# Altium schematic symbol library Resistors.SchLib: 53 symbols
Pins are listed as number, name and electrical type; pins without a type are passive.

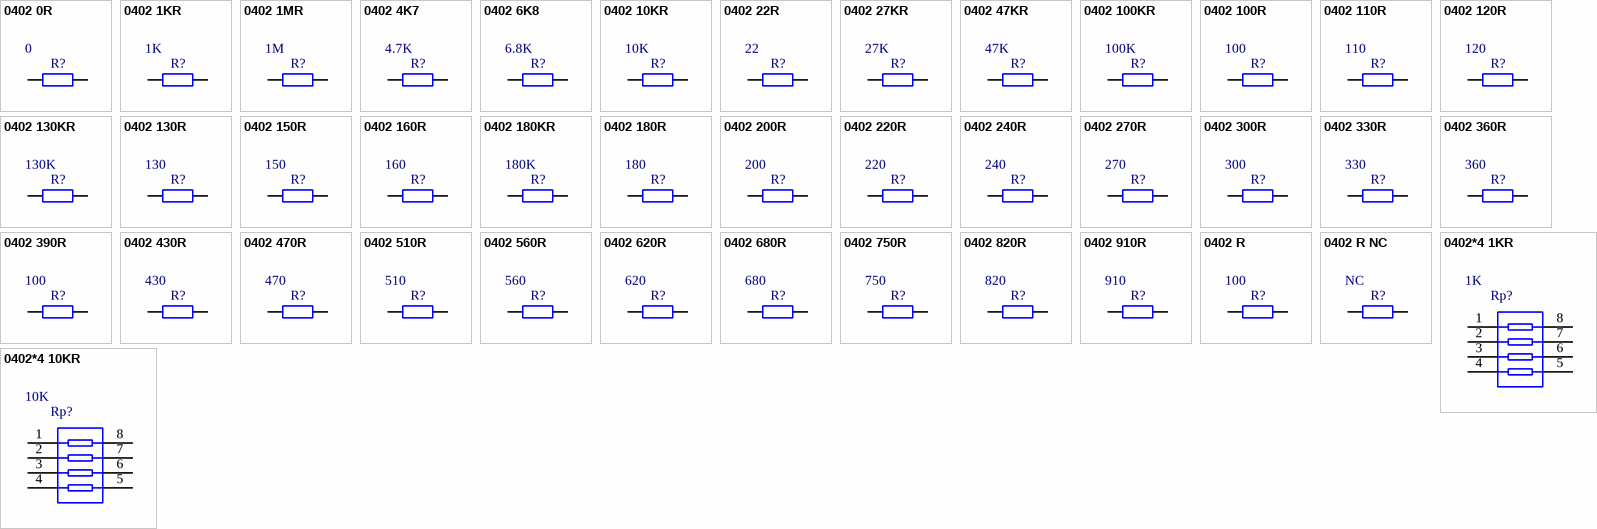
[diagram p0: symbols 0402 0R to 0402*4 10KR]

## 0402 0R
designator R?, comment value 0  (hidden comment: 0402 0Ω)
Chip Resistor; Power: 100mW; Tolerance: 1%; Package: 0402; Mounting Technology: SMT; Pins: 2; RoHS Compliant: Yes
footprint 0402_R
pins: 1, 2

## 0402 1KR
designator R?, comment value 1K  (hidden comment: 0402 1KΩ)
Chip Resistor; Power: 100mW; Tolerance: 1%; Package: 0402; Mounting Technology: SMT; Pins: 2; RoHS Compliant: Yes
footprint 0402_R
pins: 1, 2

## 0402 1MR
designator R?, comment value 1M  (hidden comment: 0402 1MΩ)
Chip Resistor; Power: 100mW; Tolerance: 1%; Package: 0402; Mounting Technology: SMT; Pins: 2; RoHS Compliant: Yes
footprint 0402_R
pins: 1, 2

## 0402 4K7
designator R?, comment value 4.7K  (hidden comment: 0402 4.7KΩ)
Chip Resistor; Power: 100mW; Tolerance: 1%; Package: 0402; Mounting Technology: SMT; Pins: 2; RoHS Compliant: Yes
footprint 0402_R
pins: 1, 2

## 0402 6K8
designator R?, comment value 6.8K  (hidden comment: 0402 6.8KΩ)
Chip Resistor; Power: 100mW; Tolerance: 1%; Package: 0402; Mounting Technology: SMT; Pins: 2; RoHS Compliant: Yes
footprint 0402_R
pins: 1, 2

## 0402 10KR
designator R?, comment value 10K  (hidden comment: 0402 10KΩ)
Chip Resistor; Power: 100mW; Tolerance: 1%; Package: 0402; Mounting Technology: SMT; Pins: 2; RoHS Compliant: Yes
footprint 0402_R
pins: 1, 2

## 0402 22R
designator R?, comment value 22  (hidden comment: 0402 22Ω)
Chip Resistor; Power: 100mW; Tolerance: 1%; Package: 0402; Mounting Technology: SMT; Pins: 2; RoHS Compliant: Yes
footprint 0402_R
pins: 1, 2

## 0402 27KR
designator R?, comment value 27K  (hidden comment: 0402 27KΩ)
Chip Resistor; Power: 100mW; Tolerance: 1%; Package: 0402; Mounting Technology: SMT; Pins: 2; RoHS Compliant: Yes
footprint 0402_R
pins: 1, 2

## 0402 47KR
designator R?, comment value 47K  (hidden comment: 0402 47KΩ)
Chip Resistor; Power: 100mW; Tolerance: 1%; Package: 0402; Mounting Technology: SMT; Pins: 2; RoHS Compliant: Yes
footprint 0402_R
pins: 1, 2

## 0402 100KR
designator R?, comment value 100K  (hidden comment: 0402 100KΩ)
Chip Resistor; Power: 100mW; Tolerance: 1%; Package: 0402; Mounting Technology: SMT; Pins: 2; RoHS Compliant: Yes
footprint 0402_R
pins: 1, 2

## 0402 100R
designator R?, comment value 100  (hidden comment: 0402 100Ω)
Chip Resistor; Power: 100mW; Tolerance: 1%; Package: 0402; Mounting Technology: SMT; Pins: 2; RoHS Compliant: Yes
footprint 0402_R
pins: 1, 2

## 0402 110R
designator R?, comment value 110  (hidden comment: 0402 110Ω)
Chip Resistor; Power: 100mW; Tolerance: 1%; Package: 0402; Mounting Technology: SMT; Pins: 2; RoHS Compliant: Yes
footprint 0402_R
pins: 1, 2

## 0402 120R
designator R?, comment value 120  (hidden comment: 0402 120Ω)
Chip Resistor; Power: 100mW; Tolerance: 1%; Package: 0402; Mounting Technology: SMT; Pins: 2; RoHS Compliant: Yes
footprint 0402_R
pins: 1, 2

## 0402 130KR
designator R?, comment value 130K  (hidden comment: 0402 130KΩ)
Chip Resistor; Power: 100mW; Tolerance: 1%; Package: 0402; Mounting Technology: SMT; Pins: 2; RoHS Compliant: Yes
footprint 0402_R
pins: 1, 2

## 0402 130R
designator R?, comment value 130  (hidden comment: 0402 130Ω)
Chip Resistor; Power: 100mW; Tolerance: 1%; Package: 0402; Mounting Technology: SMT; Pins: 2; RoHS Compliant: Yes
footprint 0402_R
pins: 1, 2

## 0402 150R
designator R?, comment value 150  (hidden comment: 0402 150Ω)
Chip Resistor; Power: 100mW; Tolerance: 1%; Package: 0402; Mounting Technology: SMT; Pins: 2; RoHS Compliant: Yes
footprint 0402_R
pins: 1, 2

## 0402 160R
designator R?, comment value 160  (hidden comment: 0402 160Ω)
Chip Resistor; Power: 100mW; Tolerance: 1%; Package: 0402; Mounting Technology: SMT; Pins: 2; RoHS Compliant: Yes
footprint 0402_R
pins: 1, 2

## 0402 180KR
designator R?, comment value 180K  (hidden comment: 0402 180KΩ)
Chip Resistor; Power: 100mW; Tolerance: 1%; Package: 0402; Mounting Technology: SMT; Pins: 2; RoHS Compliant: Yes
footprint 0402_R
pins: 1, 2

## 0402 180R
designator R?, comment value 180  (hidden comment: 0402 180Ω)
Chip Resistor; Power: 100mW; Tolerance: 1%; Package: 0402; Mounting Technology: SMT; Pins: 2; RoHS Compliant: Yes
footprint 0402_R
pins: 1, 2

## 0402 200R
designator R?, comment value 200  (hidden comment: 0402 200Ω)
Chip Resistor; Power: 100mW; Tolerance: 1%; Package: 0402; Mounting Technology: SMT; Pins: 2; RoHS Compliant: Yes
footprint 0402_R
pins: 1, 2

## 0402 220R
designator R?, comment value 220  (hidden comment: 0402 220Ω)
Chip Resistor; Power: 100mW; Tolerance: 1%; Package: 0402; Mounting Technology: SMT; Pins: 2; RoHS Compliant: Yes
footprint 0402_R
pins: 1, 2

## 0402 240R
designator R?, comment value 240  (hidden comment: 0402 240Ω)
Chip Resistor; Power: 100mW; Tolerance: 1%; Package: 0402; Mounting Technology: SMT; Pins: 2; RoHS Compliant: Yes
footprint 0402_R
pins: 1, 2

## 0402 270R
designator R?, comment value 270  (hidden comment: 0402 270Ω)
Chip Resistor; Power: 100mW; Tolerance: 1%; Package: 0402; Mounting Technology: SMT; Pins: 2; RoHS Compliant: Yes
footprint 0402_R
pins: 1, 2

## 0402 300R
designator R?, comment value 300  (hidden comment: 0402 300Ω)
Chip Resistor; Power: 100mW; Tolerance: 1%; Package: 0402; Mounting Technology: SMT; Pins: 2; RoHS Compliant: Yes
footprint 0402_R
pins: 1, 2

## 0402 330R
designator R?, comment value 330  (hidden comment: 0402 330Ω)
Chip Resistor; Power: 100mW; Tolerance: 1%; Package: 0402; Mounting Technology: SMT; Pins: 2; RoHS Compliant: Yes
footprint 0402_R
pins: 1, 2

## 0402 360R
designator R?, comment value 360  (hidden comment: 0402 360Ω)
Chip Resistor; Power: 100mW; Tolerance: 1%; Package: 0402; Mounting Technology: SMT; Pins: 2; RoHS Compliant: Yes
footprint 0402_R
pins: 1, 2

## 0402 390R
designator R?, comment value 100  (hidden comment: 390 100Ω)
Chip Resistor; Power: 100mW; Tolerance: 1%; Package: 390; Mounting Technology: SMT; Pins: 2; RoHS Compliant: Yes
footprint 0402_R
pins: 1, 2

## 0402 430R
designator R?, comment value 430  (hidden comment: 0402 430Ω)
Chip Resistor; Power: 100mW; Tolerance: 1%; Package: 0402; Mounting Technology: SMT; Pins: 2; RoHS Compliant: Yes
footprint 0402_R
pins: 1, 2

## 0402 470R
designator R?, comment value 470  (hidden comment: 0402 470Ω)
Chip Resistor; Power: 100mW; Tolerance: 1%; Package: 0402; Mounting Technology: SMT; Pins: 2; RoHS Compliant: Yes
footprint 0402_R
pins: 1, 2

## 0402 510R
designator R?, comment value 510  (hidden comment: 0402 510Ω)
Chip Resistor; Power: 100mW; Tolerance: 1%; Package: 0402; Mounting Technology: SMT; Pins: 2; RoHS Compliant: Yes
footprint 0402_R
pins: 1, 2

## 0402 560R
designator R?, comment value 560  (hidden comment: 0402 560Ω)
Chip Resistor; Power: 100mW; Tolerance: 1%; Package: 0402; Mounting Technology: SMT; Pins: 2; RoHS Compliant: Yes
footprint 0402_R
pins: 1, 2

## 0402 620R
designator R?, comment value 620  (hidden comment: 0402 620Ω)
Chip Resistor; Power: 100mW; Tolerance: 1%; Package: 0402; Mounting Technology: SMT; Pins: 2; RoHS Compliant: Yes
footprint 0402_R
pins: 1, 2

## 0402 680R
designator R?, comment value 680  (hidden comment: 0402 680Ω)
Chip Resistor; Power: 100mW; Tolerance: 1%; Package: 0402; Mounting Technology: SMT; Pins: 2; RoHS Compliant: Yes
footprint 0402_R
pins: 1, 2

## 0402 750R
designator R?, comment value 750  (hidden comment: 0402 750Ω)
Chip Resistor; Power: 100mW; Tolerance: 1%; Package: 0402; Mounting Technology: SMT; Pins: 2; RoHS Compliant: Yes
footprint 0402_R
pins: 1, 2

## 0402 820R
designator R?, comment value 820  (hidden comment: 0402 820Ω)
Chip Resistor; Power: 100mW; Tolerance: 1%; Package: 0402; Mounting Technology: SMT; Pins: 2; RoHS Compliant: Yes
footprint 0402_R
pins: 1, 2

## 0402 910R
designator R?, comment value 910  (hidden comment: 0402 910Ω)
Chip Resistor; Power: 100mW; Tolerance: 1%; Package: 0402; Mounting Technology: SMT; Pins: 2; RoHS Compliant: Yes
footprint 0402_R
pins: 1, 2

## 0402 R
designator R?, comment value 100  (hidden comment: 0402 100Ω)
Chip Resistor; Power: 100mW; Tolerance: 1%; Package: 0402; Mounting Technology: SMT; Pins: 2; RoHS Compliant: Yes
footprint 0402_R
pins: 1, 2

## 0402 R NC
designator R?, comment value NC  (hidden comment: 0402 NCΩ)  (no BOM)
Chip Resistor; Power: 100mW; Tolerance: 1%; Package: 0402; Mounting Technology: SMT; Pins: 2; RoHS Compliant: Yes
footprint 0402_R
pins: 1, 2

## 0402*4 1KR
designator Rp?, comment value 1K  (hidden comment: 0402*4 1KΩ)
Chip Series Resistor; Power: 100mW; Tolerance: 1%; Package: 0402*4; Mounting Technology: SMT; Pins: 8; RoHS Compliant: Yes
footprint 0402_Rx4
pins: 1, 2, 3, 4, 5, 6, 7, 8

## 0402*4 10KR
designator Rp?, comment value 10K  (hidden comment: 0402*4 10KΩ)
Chip Series Resistor; Power: 100mW; Tolerance: 1%; Package: 0402*4; Mounting Technology: SMT; Pins: 8; RoHS Compliant: Yes
footprint 0402_Rx4
pins: 1, 2, 3, 4, 5, 6, 7, 8

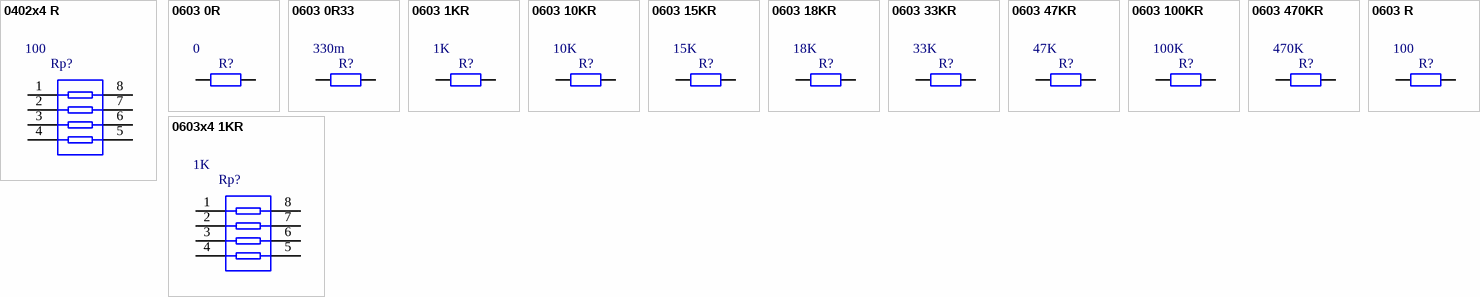
[diagram p1: symbols 0402x4 R to 0603x4 1KR]

## 0402x4 R
designator Rp?, comment value 100  (hidden comment: 0402x4 100Ω)
Chip Series Resistor; Power: 100mW; Tolerance: 1%; Package: 0402x4; Mounting Technology: SMT; Pins: 8; RoHS Compliant: Yes
footprint 0402_Rx4
pins: 1, 2, 3, 4, 5, 6, 7, 8

## 0603 0R
designator R?, comment value 0  (hidden comment: 0603 0Ω)
Chip Resistor; Power: 100mW; Tolerance: 1%; Package: 0603; Mounting Technology: SMT; Pins: 2; RoHS Compliant: Yes
footprint 0603_R
footprint 0603-FUSE
pins: 1, 2

## 0603 0R33
designator R?, comment value 330m  (hidden comment: 0603 330mΩ)
Chip Resistor; Power: 100mW; Tolerance: 1%; Package: 0603; Mounting Technology: SMT; Pins: 2; RoHS Compliant: Yes
footprint 0603_R
pins: 1, 2

## 0603 1KR
designator R?, comment value 1K  (hidden comment: 0603 1KΩ)
Chip Resistor; Power: 100mW; Tolerance: 1%; Package: 0603; Mounting Technology: SMT; Pins: 2; RoHS Compliant: Yes
footprint 0603_R
pins: 1, 2

## 0603 10KR
designator R?, comment value 10K  (hidden comment: 0603 10KΩ)
Chip Resistor; Power: 100mW; Tolerance: 1%; Package: 0603; Mounting Technology: SMT; Pins: 2; RoHS Compliant: Yes
footprint 0603_R
pins: 1, 2

## 0603 15KR
designator R?, comment value 15K  (hidden comment: 0603 15KΩ)
Chip Resistor; Power: 100mW; Tolerance: 1%; Package: 0603; Mounting Technology: SMT; Pins: 2; RoHS Compliant: Yes
footprint 0603_R
pins: 1, 2

## 0603 18KR
designator R?, comment value 18K  (hidden comment: 0603 18KΩ)
Chip Resistor; Power: 100mW; Tolerance: 1%; Package: 0603; Mounting Technology: SMT; Pins: 2; RoHS Compliant: Yes
footprint 0603_R
pins: 1, 2

## 0603 33KR
designator R?, comment value 33K  (hidden comment: 0603 33KΩ)
Chip Resistor; Power: 100mW; Tolerance: 1%; Package: 0603; Mounting Technology: SMT; Pins: 2; RoHS Compliant: Yes
footprint 0603_R
pins: 1, 2

## 0603 47KR
designator R?, comment value 47K  (hidden comment: 0603 47KΩ)
Chip Resistor; Power: 100mW; Tolerance: 1%; Package: 0603; Mounting Technology: SMT; Pins: 2; RoHS Compliant: Yes
footprint 0603_R
pins: 1, 2

## 0603 100KR
designator R?, comment value 100K  (hidden comment: 0603 100KΩ)
Chip Resistor; Power: 100mW; Tolerance: 1%; Package: 0603; Mounting Technology: SMT; Pins: 2; RoHS Compliant: Yes
footprint 0603_R
pins: 1, 2

## 0603 470KR
designator R?, comment value 470K  (hidden comment: 0603 470KΩ)
Chip Resistor; Power: 100mW; Tolerance: 1%; Package: 0603; Mounting Technology: SMT; Pins: 2; RoHS Compliant: Yes
footprint 0603_R
pins: 1, 2

## 0603 R
designator R?, comment value 100  (hidden comment: 0603 100Ω)
Chip Resistor; Power: 100mW; Tolerance: 1%; Package: 0603; Mounting Technology: SMT; Pins: 2; RoHS Compliant: Yes
footprint 0603_R
pins: 1, 2

## 0603x4 1KR
designator Rp?, comment value 1K  (hidden comment: 0603x4 1KΩ)
Chip Series Resistor; Power: 100mW; Tolerance: 1%; Package: 0603x4; Mounting Technology: SMT; Pins: 8; RoHS Compliant: Yes
footprint 0603_Rx4
pins: 1, 2, 3, 4, 5, 6, 7, 8